# EAGLE library part 634008149721 (library USB_c_conn)
WR-MJ_Modular Jack_Tab UP_8P8C 8P8C Tab UP With EMI panel ground <http://katalog.we-online.de/media/images/eican/Con_WR-MJ_Horizontal_Shielded_634008149721_pf2.jpg> Details see: http://katalog.we-online.de/en/em/MJ_SMT_HORIZONTAL_SHIELDED_W_EMI_PANEL_FINGER_8P8C/634008149721 Created 2014-10-18, aslant tao 2014 (C) Würth Elektronik
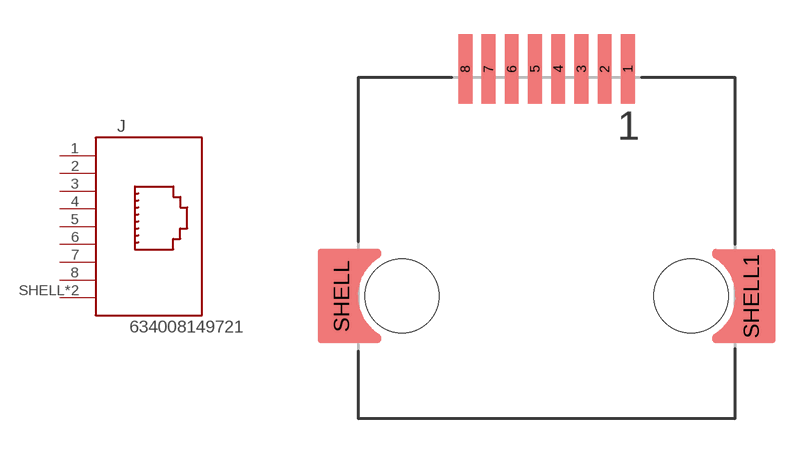
[diagram p164: symbol with the pads of 634008149721; footprint 634008149721]

Designator prefix J

## 634008149721  [634008149721]
1  8  pas
2  7  pas
3  6  pas
4  5  pas
5  4  pas
6  3  pas
7  2  pas
8  1  pas
SHELL  SHIELD  pas
SHELL1  SHIELD  pas

## Footprint 634008149721 (pad centres in mm)
WR-MJ_Modular Jack_Tab UP_8P8C 8P8C Tab UP With EMI panel ground
smd 0.61 x 3.05: 1 3.57,0; 2 2.55,0; 3 1.53,0; 4 0.51,0; 5 -0.51,0; 6 -1.53,0; 7 -2.55,0; 8 -3.57,0
smd 1 x 3.89: SHELL -9,-9.98; SHELL1 9,-9.98
hole 3.25 at -6.35,-9.98
hole 3.25 at 6.35,-9.98